# Altium schematic symbol library Анализатор .034 -лист 4.SchLib: 14 symbols
Pins are listed as number, name and electrical type; pins without a type are passive.

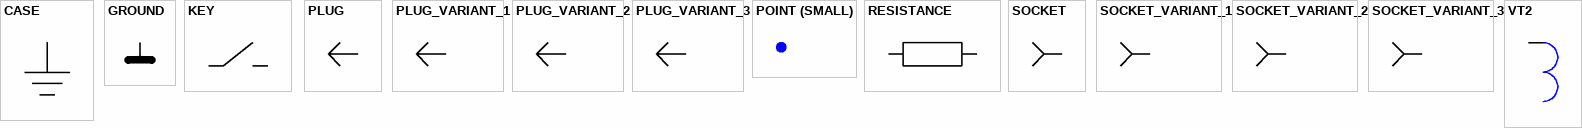
[diagram p0: symbols CASE to VT2]

## CASE
designator U?  (value not drawn)
Value: *
pins: 1 DGND

## GROUND
designator U?  (value not drawn)
Value: *
pins: 1

## KEY
designator U?  (value not drawn)
Value: *
pins: 1, 2

## PLUG
designator U?  (value not drawn)
Value: *
pins: 1

## PLUG_VARIANT_1
designator U?, comment PLUG  (value not drawn)
PLUG_VARIANT_1; Value: *
pins: 1

## PLUG_VARIANT_2
designator U?, comment PLUG  (value not drawn)
PLUG_VARIANT_2; Value: *
pins: 1

## PLUG_VARIANT_3
designator U?, comment PLUG  (value not drawn)
PLUG_VARIANT_3; Value: *
pins: 1

## POINT (SMALL)
designator U?  (value not drawn)
Value: *
pins: 0

## RESISTANCE
designator U?  (value not drawn)
Value: *
pins: 1, 2

## SOCKET
designator U?  (value not drawn)
Value: *
pins: 1

## SOCKET_VARIANT_1
designator U?, comment SOCKET  (value not drawn)
SOCKET_VARIANT_1; Value: *
pins: 1

## SOCKET_VARIANT_2
designator U?, comment SOCKET  (value not drawn)
SOCKET_VARIANT_2; Value: *
pins: 1

## SOCKET_VARIANT_3
designator U?, comment SOCKET  (value not drawn)
SOCKET_VARIANT_3; Value: *
pins: 1

## VT2
designator U?  (value not drawn)
Value: *
pins: 0